# Altium schematic symbol library W25Q16JVSSIQ.SCHLIB: 1 symbol
Pins are listed as number, name and electrical type; pins without a type are passive.

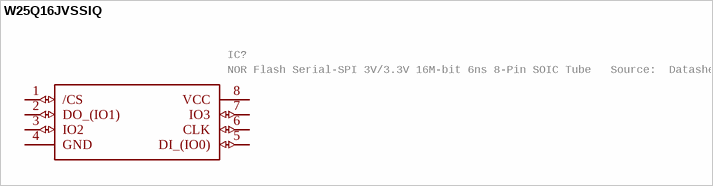
[diagram p0: symbol W25Q16JVSSIQ]

## W25Q16JVSSIQ
designator IC?, comment NOR Flash Serial-SPI 3V/3.3V 16M-bit 6ns 8-Pin SOIC Tube   Source:  Datasheet
Manufacturer_Name: Winbond; GateName_1: G$1; SymbolName_1: W25Q16JVSSIQ; LibraryName: W25Q16JVSSIQ; DeviceSetName: W25Q16JVSSIQ; Package: SOIC127P790X216-8N; Manufacturer_Part_Number: W25Q16JVSSIQ; Mouser_Part_Number: 454-W25Q16JVSSIQ; Mouser_Price-Stock: https://www.mouser.co.uk/ProductDetail/Winbond/W25Q16JVSSIQ?qs=qSfuJ%252Bfl%2Fd46L%2F1QrQC%2Fog%3D%3D; Arrow_Part_Number: W25Q16JVSSIQ; Arrow_Price-Stock: https://www.arrow.com/en/products/w25q16jvssiq/winbond-electronics; Height: 2.16mm
footprint SOIC127P790X216-8N
pins: 1 /CS (io), 2 DO_(IO1) (io), 3 IO2 (io), 4 GND, 5 DI_(IO0) (io), 6 CLK (io), 7 IO3 (io), 8 VCC